# Altium integrated library Analog Devices Switches and Multiplexers Analog Switches.IntLib: 575 symbols (part 14 of 23)
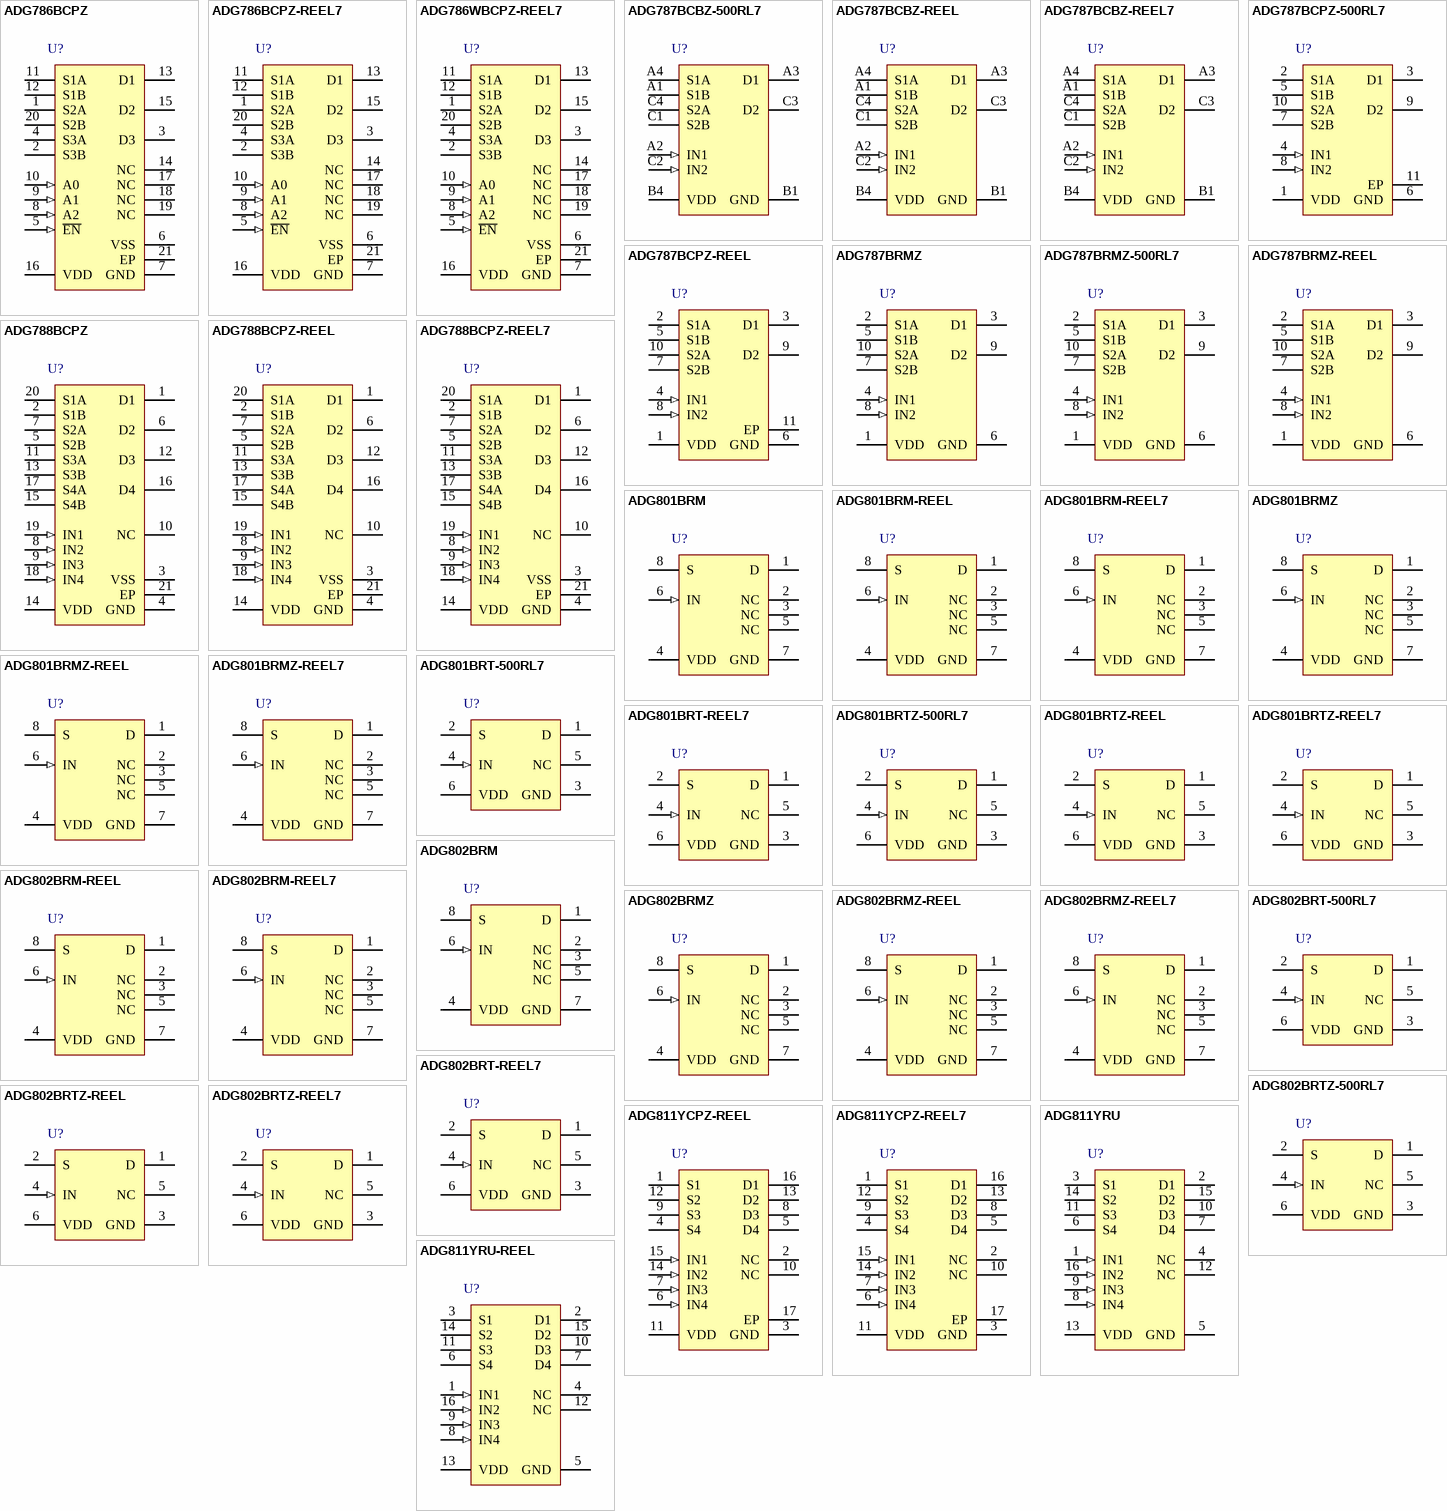
[diagram p28: symbols ADG786BCPZ to ADG811YRU-REEL]

## ADG787BCBZ-REEL
designator U?
2.5 Ohm CMOS Low Power Dual 2:1 Mux / Demux USB 1.1 Switch, -25 to 85 degC, 10-pin BGA (CB-10), Reel; Manufacturer: Analog Devices; PartNumber: ADG787BCBZ-REEL; Configuration: SPDT; Id, Is (ON): 50pA, 10pA; Max Pos Supply: 5.5V; Min Pos Supply: 1.8V; Power Dissipation: 5.5uW; Ron (ohms): 2.5; DatasheetVersion: 111105-0; PackageVersion: 111105-0, 11/2005; PackageReference: CB-10-ADG787; PackageDescription: 10-Ball Wafer Level Chip Scale Package, Body 2 x 1.5 mm, Pitch 0.5 mm; Supplier 1: Digi-Key; Supplier Part Number 1: ADG787BCBZ-REEL-ND; Supplier 2: Mouser; Supplier Part Number 2: 584-ADG787BCBZ-R; Is OFF: 50pA, 10pA; Packing: Reel; Mounting Technology: Surface Mount; ComponentLink1Description: Manufacturer URL; ComponentLink1URL: http://www.analog.com/en/index.html; ComponentLink2Description: Datasheet; ComponentLink2URL: http://www.analog.com/static/imported-files/data_sheets/ADG787.pdf; ComponentLink3Description: Package Specification; ComponentLink3URL: http://www.analog.com/static/imported-files/data_sheets/ADG787.pdf
footprint ADI-CB-10-ADG787 (BGA, 10-Balls, Body 2x1.5mm, Pitch 0.5mm)
pins: A1 S1B "Source Terminal. May be an input or output.", A2 IN1 (in) "Logic Control Input.", A3 D1 "Drain Terminal. May be an input or output.", A4 S1A "Source Terminal. May be an input or output.", B1 GND (power) "Ground (0 V) Reference.", B4 VDD (power) "Most Positive Power Supply Potential.", C1 S2B "Source Terminal. May be an input or output.", C2 IN2 (in) "Logic Control Input.", C3 D2 "Drain Terminal. May be an input or output.", C4 S2A "Source Terminal. May be an input or output."

## ADG787BCBZ-REEL7
designator U?
2.5 Ohm CMOS Low Power Dual 2:1 Mux / Demux USB 1.1 Switch, -25 to 85 degC, 10-pin BGA (CB-10), Reel; Manufacturer: Analog Devices; PartNumber: ADG787BCBZ-REEL7; Configuration: SPDT; Id, Is (ON): 50pA, 10pA; Max Pos Supply: 5.5V; Min Pos Supply: 1.8V; Power Dissipation: 5.5uW; Ron (ohms): 2.5; DatasheetVersion: 111105-0; PackageVersion: 111105-0, 11/2005; PackageReference: CB-10-ADG787; PackageDescription: 10-Ball Wafer Level Chip Scale Package, Body 2 x 1.5 mm, Pitch 0.5 mm; Supplier 1: Digi-Key; Supplier Part Number 1: ADG787BCBZ-REEL7CT-ND; Supplier 2: Digi-Key; Supplier Part Number 2: ADG787BCBZ-REEL7DKR-ND; Supplier 3: Mouser; Supplier Part Number 3: 584-ADG787BCBZ-R7; Is OFF: 50pA, 10pA; Packing: Reel; Mounting Technology: Surface Mount; ComponentLink1Description: Manufacturer URL; ComponentLink1URL: http://www.analog.com/en/index.html; ComponentLink2Description: Datasheet; ComponentLink2URL: http://www.analog.com/static/imported-files/data_sheets/ADG787.pdf; ComponentLink3Description: Package Specification; ComponentLink3URL: http://www.analog.com/static/imported-files/data_sheets/ADG787.pdf
footprint ADI-CB-10-ADG787 (BGA, 10-Balls, Body 2x1.5mm, Pitch 0.5mm)
pins: A1 S1B "Source Terminal. May be an input or output.", A2 IN1 (in) "Logic Control Input.", A3 D1 "Drain Terminal. May be an input or output.", A4 S1A "Source Terminal. May be an input or output.", B1 GND (power) "Ground (0 V) Reference.", B4 VDD (power) "Most Positive Power Supply Potential.", C1 S2B "Source Terminal. May be an input or output.", C2 IN2 (in) "Logic Control Input.", C3 D2 "Drain Terminal. May be an input or output.", C4 S2A "Source Terminal. May be an input or output."

## ADG787BCPZ-500RL7
designator U?
2.5 Ohm CMOS Low Power Dual 2:1 Mux / Demux USB 1.1 Switch, -40 to 85 degC, 10-pin SON (CP-10-9), Reel; Manufacturer: Analog Devices; PartNumber: ADG787BCPZ-500RL7; Configuration: SPDT; Id, Is (ON): 50pA, 10pA; Max Pos Supply: 5.5V; Min Pos Supply: 1.8V; Power Dissipation: 5.5uW; Ron (ohms): 2.5; DatasheetVersion: 111105-0; PackageVersion: 02-27-2012-B; PackageReference: CP-10-9; PackageDescription: 10-Pin Lead Frame Chip Scale Package, Body 3 X 3 mm, Pitch 0.5 mm; Supplier 1: Digi-Key; Supplier Part Number 1: ADG787BCPZ-500RL7TR-ND; Supplier 2: Digi-Key; Supplier Part Number 2: ADG787BCPZ-500RL7CT-ND; Supplier 3: Digi-Key; Supplier Part Number 3: ADG787BCPZ-500RL7DKR-ND; Supplier 4: Newark; Supplier Part Number 4: 34M4792; Supplier 5: Mouser; Supplier Part Number 5: 584-ADG787BCPZ-500R7; Is OFF: 50pA, 10pA; Packing: Reel; Mounting Technology: Surface Mount; ComponentLink1Description: Manufacturer URL; ComponentLink1URL: http://www.analog.com/en/index.html; ComponentLink2Description: Datasheet; ComponentLink2URL: http://www.analog.com/static/imported-files/data_sheets/ADG787.pdf; ComponentLink3Description: Package Specification; ComponentLink3URL: http://www.analog.com/static/imported-files/packages/CP_10_9.pdf
footprint ADI-CP-10-9_V (SON, 10-Leads, Body 3x3mm, Pitch 0.5mm, Thermal Pad 2.48x1.74mm)
pins: 1 VDD (power) "Most Positive Power Supply Potential.", 2 S1A "Source Terminal. May be an input or output.", 3 D1 "Drain Terminal. May be an input or output.", 4 IN1 (in) "Logic Control Input.", 5 S1B "Source Terminal. May be an input or output.", 6 GND (power) "Ground (0 V) Reference.", 7 S2B "Source Terminal. May be an input or output.", 8 IN2 (in) "Logic Control Input.", 9 D2 "Drain Terminal. May be an input or output.", 10 S2A "Source Terminal. May be an input or output.", 11 EP "Exposed thermal pad"

## ADG787BCPZ-REEL
designator U?
2.5 Ohm CMOS Low Power Dual 2:1 Mux / Demux USB 1.1 Switch, -40 to 85 degC, 10-pin SON (CP-10-9), Reel; Manufacturer: Analog Devices; PartNumber: ADG787BCPZ-REEL; Configuration: SPDT; Id, Is (ON): 50pA, 10pA; Max Pos Supply: 5.5V; Min Pos Supply: 1.8V; Power Dissipation: 5.5uW; Ron (ohms): 2.5; DatasheetVersion: 111105-0; PackageVersion: 02-27-2012-B; PackageReference: CP-10-9; PackageDescription: 10-Pin Lead Frame Chip Scale Package, Body 3 X 3 mm, Pitch 0.5 mm; Supplier 1: Digi-Key; Supplier Part Number 1: ADG787BCPZ-REEL-ND; Supplier 2: Mouser; Supplier Part Number 2: 584-ADG787BCPZ-R; Is OFF: 50pA, 10pA; Packing: Reel; Mounting Technology: Surface Mount; ComponentLink1Description: Manufacturer URL; ComponentLink1URL: http://www.analog.com/en/index.html; ComponentLink2Description: Datasheet; ComponentLink2URL: http://www.analog.com/static/imported-files/data_sheets/ADG787.pdf; ComponentLink3Description: Package Specification; ComponentLink3URL: http://www.analog.com/static/imported-files/packages/CP_10_9.pdf
footprint ADI-CP-10-9_V (SON, 10-Leads, Body 3x3mm, Pitch 0.5mm, Thermal Pad 2.48x1.74mm)
pins: 1 VDD (power) "Most Positive Power Supply Potential.", 2 S1A "Source Terminal. May be an input or output.", 3 D1 "Drain Terminal. May be an input or output.", 4 IN1 (in) "Logic Control Input.", 5 S1B "Source Terminal. May be an input or output.", 6 GND (power) "Ground (0 V) Reference.", 7 S2B "Source Terminal. May be an input or output.", 8 IN2 (in) "Logic Control Input.", 9 D2 "Drain Terminal. May be an input or output.", 10 S2A "Source Terminal. May be an input or output.", 11 EP "Exposed thermal pad"

## ADG787BRMZ
designator U?
2.5 Ohm CMOS Low Power Dual 2:1 Mux / Demux USB 1.1 Switch, -40 to 85 degC, 10-pin SOP (RM-10), Tube; Manufacturer: Analog Devices; PartNumber: ADG787BRMZ; Configuration: SPDT; Id, Is (ON): 50pA, 10pA; Max Pos Supply: 5.5V; Min Pos Supply: 1.8V; Power Dissipation: 5.5uW; Ron (ohms): 2.5; DatasheetVersion: 111105-0; PackageVersion: Aug-05; PackageReference: RM-10; PackageDescription: 10-Pin Mini Small Outline Package, Body 3 x 3 mm, Pitch 0.5 mm; Supplier 1: Digi-Key; Supplier Part Number 1: ADG787BRMZ-ND; Supplier 2: Farnell; Supplier Part Number 2: 1117867; Supplier 3: Newark; Supplier Part Number 3: 19M0695; Supplier 4: Mouser; Supplier Part Number 4: 584-ADG787BRMZ; Is OFF: 50pA, 10pA; Packing: Tube; Mounting Technology: Surface Mount; Code_JEDEC: MO-187-BA; ComponentLink1Description: Manufacturer URL; ComponentLink1URL: http://www.analog.com/en/index.html; ComponentLink2Description: Datasheet; ComponentLink2URL: http://www.analog.com/static/imported-files/data_sheets/ADG787.pdf; ComponentLink3Description: Package Specification; ComponentLink3URL: http://www.analog.com/static/imported-files/packages/PKG_PDF/MSOP%28RM%29/RM_10.pdf
footprint ADI-RM-10_N (SOP, 10-Leads, Body 3x3mm, Pitch 0.5mm, IPC Medium Density)
footprint ADI-RM-10_L (SOP, 10-Leads, Body 3x3mm, Pitch 0.5mm, IPC High Density)
footprint ADI-RM-10_M (SOP, 10-Leads, Body 3x3mm, Pitch 0.5mm, IPC Low Density)
pins: 1 VDD (power) "Most Positive Power Supply Potential.", 2 S1A "Source Terminal. Can be an input or output.", 3 D1 "Drain Terminal. Can be an input or output.", 4 IN1 (in) "Logic Control Input.", 5 S1B "Source Terminal. Can be an input or output.", 6 GND (power) "Ground (0 V) Reference.", 7 S2B "Source Terminal. Can be an input or output.", 8 IN2 (in) "Login Control Input.", 9 D2 "Drain Terminal. Can be an input or output.", 10 S2A "Source Terminal. Can be an input or output."

## ADG787BRMZ-500RL7
designator U?
2.5 Ohm CMOS Low Power Dual 2:1 Mux / Demux USB 1.1 Switch, -40 to 85 degC, 10-pin SOP (RM-10), Reel; Manufacturer: Analog Devices; PartNumber: ADG787BRMZ-500RL7; Configuration: SPDT; Id, Is (ON): 50pA, 10pA; Max Pos Supply: 5.5V; Min Pos Supply: 1.8V; Power Dissipation: 5.5uW; Ron (ohms): 2.5; DatasheetVersion: 111105-0; PackageVersion: Aug-05; PackageReference: RM-10; PackageDescription: 10-Pin Mini Small Outline Package, Body 3 x 3 mm, Pitch 0.5 mm; Supplier 1: Digi-Key; Supplier Part Number 1: ADG787BRMZ-500RL7TR-ND; Supplier 2: Digi-Key; Supplier Part Number 2: ADG787BRMZ-500RL7CT-ND; Supplier 3: Digi-Key; Supplier Part Number 3: ADG787BRMZ-500RL7DKR-ND; Supplier 4: Newark; Supplier Part Number 4: 34M4794; Supplier 5: Mouser; Supplier Part Number 5: 584-ADG787BRMZ-500R7; Is OFF: 50pA, 10pA; Packing: Reel; Mounting Technology: Surface Mount; Code_JEDEC: MO-187-BA; ComponentLink1Description: Manufacturer URL; ComponentLink1URL: http://www.analog.com/en/index.html; ComponentLink2Description: Datasheet; ComponentLink2URL: http://www.analog.com/static/imported-files/data_sheets/ADG787.pdf; ComponentLink3Description: Package Specification; ComponentLink3URL: http://www.analog.com/static/imported-files/packages/PKG_PDF/MSOP%28RM%29/RM_10.pdf
footprint ADI-RM-10_N (SOP, 10-Leads, Body 3x3mm, Pitch 0.5mm, IPC Medium Density)
footprint ADI-RM-10_L (SOP, 10-Leads, Body 3x3mm, Pitch 0.5mm, IPC High Density)
footprint ADI-RM-10_M (SOP, 10-Leads, Body 3x3mm, Pitch 0.5mm, IPC Low Density)
pins: 1 VDD (power) "Most Positive Power Supply Potential.", 2 S1A "Source Terminal. Can be an input or output.", 3 D1 "Drain Terminal. Can be an input or output.", 4 IN1 (in) "Logic Control Input.", 5 S1B "Source Terminal. Can be an input or output.", 6 GND (power) "Ground (0 V) Reference.", 7 S2B "Source Terminal. Can be an input or output.", 8 IN2 (in) "Login Control Input.", 9 D2 "Drain Terminal. Can be an input or output.", 10 S2A "Source Terminal. Can be an input or output."

## ADG787BRMZ-REEL
designator U?
2.5 Ohm CMOS Low Power Dual 2:1 Mux / Demux USB 1.1 Switch, -40 to 85 degC, 10-pin SOP (RM-10), Reel; Manufacturer: Analog Devices; PartNumber: ADG787BRMZ-REEL; Configuration: SPDT; Id, Is (ON): 50pA, 10pA; Max Pos Supply: 5.5V; Min Pos Supply: 1.8V; Power Dissipation: 5.5uW; Ron (ohms): 2.5; DatasheetVersion: 111105-0; PackageVersion: Aug-05; PackageReference: RM-10; PackageDescription: 10-Pin Mini Small Outline Package, Body 3 x 3 mm, Pitch 0.5 mm; Supplier 1: Digi-Key; Supplier Part Number 1: ADG787BRMZ-REEL-ND; Supplier 2: Newark; Supplier Part Number 2: 34M4793; Supplier 3: Mouser; Supplier Part Number 3: 584-ADG787BRMZ-R; Is OFF: 50pA, 10pA; Packing: Reel; Mounting Technology: Surface Mount; Code_JEDEC: MO-187-BA; ComponentLink1Description: Manufacturer URL; ComponentLink1URL: http://www.analog.com/en/index.html; ComponentLink2Description: Datasheet; ComponentLink2URL: http://www.analog.com/static/imported-files/data_sheets/ADG787.pdf; ComponentLink3Description: Package Specification; ComponentLink3URL: http://www.analog.com/static/imported-files/packages/PKG_PDF/MSOP%28RM%29/RM_10.pdf
footprint ADI-RM-10_N (SOP, 10-Leads, Body 3x3mm, Pitch 0.5mm, IPC Medium Density)
footprint ADI-RM-10_L (SOP, 10-Leads, Body 3x3mm, Pitch 0.5mm, IPC High Density)
footprint ADI-RM-10_M (SOP, 10-Leads, Body 3x3mm, Pitch 0.5mm, IPC Low Density)
pins: 1 VDD (power) "Most Positive Power Supply Potential.", 2 S1A "Source Terminal. Can be an input or output.", 3 D1 "Drain Terminal. Can be an input or output.", 4 IN1 (in) "Logic Control Input.", 5 S1B "Source Terminal. Can be an input or output.", 6 GND (power) "Ground (0 V) Reference.", 7 S2B "Source Terminal. Can be an input or output.", 8 IN2 (in) "Login Control Input.", 9 D2 "Drain Terminal. Can be an input or output.", 10 S2A "Source Terminal. Can be an input or output."

## ADG788BCPZ
designator U?
2.5 Ohm, 1.8 to 5.5 V, +/-2.5 V Quad SPDT Switch, -40 to 85 degC, 20-pin QFN (CP-20-1), Tray; Manufacturer: Analog Devices; PartNumber: ADG788BCPZ; Id, Is (ON): 10pA, 10pA; Max Pos Supply: 5.5V; Min Pos Supply: 1.8V; Ron (ohms): 2.5; DatasheetVersion: Rev. A; PackageVersion: 012508-B, 01/2008; PackageReference: CP-20-1; PackageDescription: 20-Pin Lead Frame Chip Scale Package, Body 4 x 4 mm, Pitch 0.5 mm; Supplier 1: Digi-Key; Supplier Part Number 1: ADG788BCPZ-ND; Supplier 2: Farnell; Supplier Part Number 2: 2376789; Supplier 3: Farnell; Supplier Part Number 3: 1702949; Supplier 4: Newark; Supplier Part Number 4: 96K2068; Supplier 5: Mouser; Supplier Part Number 5: 584-ADG788BCPZ; Configuration: SPDT; Is OFF: 10pA, 10pA; Packing: Tray; Mounting Technology: Surface Mount; Code_JEDEC: MO-220-VGGD-1; ComponentLink1Description: Manufacturer URL; ComponentLink1URL: http://www.analog.com/en/index.html; ComponentLink2Description: Datasheet; ComponentLink2URL: http://www.analog.com/static/imported-files/data_sheets/ADG786_788.pdf; ComponentLink3Description: Package Specification; ComponentLink3URL: http://www.analog.com/static/imported-files/packages/PKG_PDF/LFCSP(CP)/CP_20_1.pdf
footprint ADI-CP-20-1_N (QFN, 20-Leads, Body 4x4mm, Pitch 0.5mm, Thermal Pad 2.1x2.1mm, IPC Medium Density)
footprint ADI-CP-20-1_L (QFN, 20-Leads, Body 4x4mm, Pitch 0.5mm, Thermal Pad 2.1x2.1mm, IPC High Density)
footprint ADI-CP-20-1_M (QFN, 20-Leads, Body 4x4mm, Pitch 0.5mm, Thermal Pad 2.1x2.1mm, IPC Low Density)
pins: 1 D1 "Drain Terminal. May be an input or output", 2 S1B "Source Terminal. May be an input or output", 3 VSS (power) "Most Negative Power Supply in a Dual Supply Application. In single supply applications, this should be tied to ground close to the device.", 4 GND (power) "Ground (0 V) Reference", 5 S2B "Source Terminal. May be an input or output", 6 D2 "Drain Terminal. May be an input or output", 7 S2A "Source Terminal. May be an input or output", 8 IN2 (in) "Logic Control Input", 9 IN3 (in) "Logic Control Input", 10 NC "No Connect", 11 S3A "Source Terminal. May be an input or output", 12 D3 "Drain Terminal. May be an input or output", 13 S3B "Source Terminal. May be an input or output", 14 VDD (power) "Most Positive Power Supply Potential", 15 S4B "Source Terminal. May be an input or output", 16 D4 "Drain Terminal. May be an input or output", 17 S4A "Source Terminal. May be an input or output", 18 IN4 (in) "Logic Control Input", 19 IN1 (in) "Logic Control Input", 20 S1A "Source Terminal. May be an input or output", 21 EP (power) "Exposed Pad tied to substrate,vss"

## ADG788BCPZ-REEL
designator U?
2.5 Ohm, 1.8 to 5.5 V, +/-2.5 V Quad SPDT Switch, -40 to 85 degC, 20-pin QFN (CP-20-1), Reel; Manufacturer: Analog Devices; PartNumber: ADG788BCPZ-REEL; Id, Is (ON): 10pA, 10pA; Max Pos Supply: 5.5V; Min Pos Supply: 1.8V; Ron (ohms): 2.5; DatasheetVersion: Rev. A; PackageVersion: 012508-B, 01/2008; PackageReference: CP-20-1; PackageDescription: 20-Pin Lead Frame Chip Scale Package, Body 4 x 4 mm, Pitch 0.5 mm; Supplier 1: Digi-Key; Supplier Part Number 1: ADG788BCPZ-REEL-ND; Supplier 2: Mouser; Supplier Part Number 2: 584-ADG788BCPZ-R; Configuration: SPDT; Is OFF: 10pA, 10pA; Packing: Reel; Mounting Technology: Surface Mount; Code_JEDEC: MO-220-VGGD-1; ComponentLink1Description: Manufacturer URL; ComponentLink1URL: http://www.analog.com/en/index.html; ComponentLink2Description: Datasheet; ComponentLink2URL: http://www.analog.com/static/imported-files/data_sheets/ADG786_788.pdf; ComponentLink3Description: Package Specification; ComponentLink3URL: http://www.analog.com/static/imported-files/packages/PKG_PDF/LFCSP(CP)/CP_20_1.pdf
footprint ADI-CP-20-1_N (QFN, 20-Leads, Body 4x4mm, Pitch 0.5mm, Thermal Pad 2.1x2.1mm, IPC Medium Density)
footprint ADI-CP-20-1_L (QFN, 20-Leads, Body 4x4mm, Pitch 0.5mm, Thermal Pad 2.1x2.1mm, IPC High Density)
footprint ADI-CP-20-1_M (QFN, 20-Leads, Body 4x4mm, Pitch 0.5mm, Thermal Pad 2.1x2.1mm, IPC Low Density)
pins: 1 D1 "Drain Terminal. May be an input or output", 2 S1B "Source Terminal. May be an input or output", 3 VSS (power) "Most Negative Power Supply in a Dual Supply Application. In single supply applications, this should be tied to ground close to the device.", 4 GND (power) "Ground (0 V) Reference", 5 S2B "Source Terminal. May be an input or output", 6 D2 "Drain Terminal. May be an input or output", 7 S2A "Source Terminal. May be an input or output", 8 IN2 (in) "Logic Control Input", 9 IN3 (in) "Logic Control Input", 10 NC "No Connect", 11 S3A "Source Terminal. May be an input or output", 12 D3 "Drain Terminal. May be an input or output", 13 S3B "Source Terminal. May be an input or output", 14 VDD (power) "Most Positive Power Supply Potential", 15 S4B "Source Terminal. May be an input or output", 16 D4 "Drain Terminal. May be an input or output", 17 S4A "Source Terminal. May be an input or output", 18 IN4 (in) "Logic Control Input", 19 IN1 (in) "Logic Control Input", 20 S1A "Source Terminal. May be an input or output", 21 EP (power) "Exposed Pad tied to substrate,vss"

## ADG788BCPZ-REEL7
designator U?
2.5 Ohm, 1.8 to 5.5 V, +/-2.5 V Quad SPDT Switch, -40 to 85 degC, 20-pin QFN (CP-20-1), Reel; Manufacturer: Analog Devices; PartNumber: ADG788BCPZ-REEL7; Id, Is (ON): 10pA, 10pA; Max Pos Supply: 5.5V; Min Pos Supply: 1.8V; Ron (ohms): 2.5; DatasheetVersion: Rev. A; PackageVersion: 012508-B, 01/2008; PackageReference: CP-20-1; PackageDescription: 20-Pin Lead Frame Chip Scale Package, Body 4 x 4 mm, Pitch 0.5 mm; Supplier 1: Digi-Key; Supplier Part Number 1: ADG788BCPZ-REEL7TR-ND; Supplier 2: Digi-Key; Supplier Part Number 2: ADG788BCPZ-REEL7CT-ND; Supplier 3: Digi-Key; Supplier Part Number 3: ADG788BCPZ-REEL7DKR-ND; Supplier 4: Newark; Supplier Part Number 4: 61M3942; Supplier 5: Mouser; Supplier Part Number 5: 584-ADG788BCPZ-R7; Configuration: SPDT; Is OFF: 10pA, 10pA; Packing: Reel; Mounting Technology: Surface Mount; Code_JEDEC: MO-220-VGGD-1; ComponentLink1Description: Manufacturer URL; ComponentLink1URL: http://www.analog.com/en/index.html; ComponentLink2Description: Datasheet; ComponentLink2URL: http://www.analog.com/static/imported-files/data_sheets/ADG786_788.pdf; ComponentLink3Description: Package Specification; ComponentLink3URL: http://www.analog.com/static/imported-files/packages/PKG_PDF/LFCSP(CP)/CP_20_1.pdf
footprint ADI-CP-20-1_N (QFN, 20-Leads, Body 4x4mm, Pitch 0.5mm, Thermal Pad 2.1x2.1mm, IPC Medium Density)
footprint ADI-CP-20-1_L (QFN, 20-Leads, Body 4x4mm, Pitch 0.5mm, Thermal Pad 2.1x2.1mm, IPC High Density)
footprint ADI-CP-20-1_M (QFN, 20-Leads, Body 4x4mm, Pitch 0.5mm, Thermal Pad 2.1x2.1mm, IPC Low Density)
pins: 1 D1 "Drain Terminal. May be an input or output", 2 S1B "Source Terminal. May be an input or output", 3 VSS (power) "Most Negative Power Supply in a Dual Supply Application. In single supply applications, this should be tied to ground close to the device.", 4 GND (power) "Ground (0 V) Reference", 5 S2B "Source Terminal. May be an input or output", 6 D2 "Drain Terminal. May be an input or output", 7 S2A "Source Terminal. May be an input or output", 8 IN2 (in) "Logic Control Input", 9 IN3 (in) "Logic Control Input", 10 NC "No Connect", 11 S3A "Source Terminal. May be an input or output", 12 D3 "Drain Terminal. May be an input or output", 13 S3B "Source Terminal. May be an input or output", 14 VDD (power) "Most Positive Power Supply Potential", 15 S4B "Source Terminal. May be an input or output", 16 D4 "Drain Terminal. May be an input or output", 17 S4A "Source Terminal. May be an input or output", 18 IN4 (in) "Logic Control Input", 19 IN1 (in) "Logic Control Input", 20 S1A "Source Terminal. May be an input or output", 21 EP (power) "Exposed Pad tied to substrate,vss"

## ADG801BRM
designator U?
<0.4 Ohm CMOS 1.8 to 5.5 V SPST Switch, -40 to 125 degC, 8-pin SOP (RM-8), Tube; Manufacturer: Analog Devices; PartNumber: ADG801BRM; # Sw Functions: 1; Id, Is (ON): 10pA, 10pA; Max Pos Supply: 5.5V; Min Pos Supply: 1.8V; Power Dissipation: 5uW; DatasheetVersion: Rev. B; PackageVersion: Aug-05; PackageReference: RM-8; PackageDescription: 8-Pin Mini Small Outline Package, Body 3 x 3 mm, Pitch 0.65 mm; Supplier 1: Digi-Key; Supplier Part Number 1: ADG801BRM-ND; Supplier 2: Newark; Supplier Part Number 2: 86C8285; Supplier 3: Mouser; Supplier Part Number 3: 584-ADG801BRM; Configuration: SPST; Is OFF: 10pA, 10pA; Packing: Tube; Mounting Technology: Surface Mount; Code_JEDEC: MO-187-AA; ComponentLink1Description: Manufacturer URL; ComponentLink1URL: http://www.analog.com/en/index.html; ComponentLink2Description: Datasheet; ComponentLink2URL: http://www.analog.com/static/imported-files/data_sheets/ADG801_802.pdf; ComponentLink3Description: Package Specification; ComponentLink3URL: http://www.analog.com/static/imported-files/packages/PKG_PDF/MSOP%28RM%29/RM_8.pdf
footprint ADI-RM-8_N (SOP, 8-Leads, Body 3x3mm, Pitch 0.65mm, IPC Medium Density)
footprint ADI-RM-8_L (SOP, 8-Leads, Body 3x3mm, Pitch 0.65mm, IPC High Density)
footprint ADI-RM-8_M (SOP, 8-Leads, Body 3x3mm, Pitch 0.65mm, IPC Low Density)
pins: 1 D "Drain Terminal. This pin can be an input or output.", 2 NC "No Connect.", 3 NC "No Connect.", 4 VDD (power) "Most Positive Power Supply Potential.", 5 NC "No Connect.", 6 IN (in) "Logic Control Input.", 7 GND (power) "Ground (0 V) Reference.", 8 S "Source Terminal. This pin can be an input or output."

## ADG801BRM-REEL
designator U?
<0.4 Ohm CMOS 1.8 to 5.5 V SPST Switch, -40 to 125 degC, 8-pin SOP (RM-8), Reel; Manufacturer: Analog Devices; PartNumber: ADG801BRM-REEL; # Sw Functions: 1; Id, Is (ON): 10pA, 10pA; Max Pos Supply: 5.5V; Min Pos Supply: 1.8V; Power Dissipation: 5uW; DatasheetVersion: Rev. B; PackageVersion: Aug-05; PackageReference: RM-8; PackageDescription: 8-Pin Mini Small Outline Package, Body 3 x 3 mm, Pitch 0.65 mm; Supplier 1: Digi-Key; Supplier Part Number 1: ADG801BRM-REEL-ND; Supplier 2: Mouser; Supplier Part Number 2: 584-ADG801BRM-R; Configuration: SPST; Is OFF: 10pA, 10pA; Packing: Reel; Mounting Technology: Surface Mount; Code_JEDEC: MO-187-AA; ComponentLink1Description: Manufacturer URL; ComponentLink1URL: http://www.analog.com/en/index.html; ComponentLink2Description: Datasheet; ComponentLink2URL: http://www.analog.com/static/imported-files/data_sheets/ADG801_802.pdf; ComponentLink3Description: Package Specification; ComponentLink3URL: http://www.analog.com/static/imported-files/packages/PKG_PDF/MSOP%28RM%29/RM_8.pdf
footprint ADI-RM-8_N (SOP, 8-Leads, Body 3x3mm, Pitch 0.65mm, IPC Medium Density)
footprint ADI-RM-8_L (SOP, 8-Leads, Body 3x3mm, Pitch 0.65mm, IPC High Density)
footprint ADI-RM-8_M (SOP, 8-Leads, Body 3x3mm, Pitch 0.65mm, IPC Low Density)
pins: 1 D "Drain Terminal. This pin can be an input or output.", 2 NC "No Connect.", 3 NC "No Connect.", 4 VDD (power) "Most Positive Power Supply Potential.", 5 NC "No Connect.", 6 IN (in) "Logic Control Input.", 7 GND (power) "Ground (0 V) Reference.", 8 S "Source Terminal. This pin can be an input or output."

## ADG801BRM-REEL7
designator U?
<0.4 Ohm CMOS 1.8 to 5.5 V SPST Switch, -40 to 125 degC, 8-pin SOP (RM-8), Reel; Manufacturer: Analog Devices; PartNumber: ADG801BRM-REEL7; # Sw Functions: 1; Id, Is (ON): 10pA, 10pA; Max Pos Supply: 5.5V; Min Pos Supply: 1.8V; Power Dissipation: 5uW; DatasheetVersion: Rev. B; PackageVersion: Aug-05; PackageReference: RM-8; PackageDescription: 8-Pin Mini Small Outline Package, Body 3 x 3 mm, Pitch 0.65 mm; Supplier 1: Digi-Key; Supplier Part Number 1: ADG801BRM-REEL7-ND; Supplier 2: Mouser; Supplier Part Number 2: 584-ADG801BRM-R7; Configuration: SPST; Is OFF: 10pA, 10pA; Packing: Reel; Mounting Technology: Surface Mount; Code_JEDEC: MO-187-AA; ComponentLink1Description: Manufacturer URL; ComponentLink1URL: http://www.analog.com/en/index.html; ComponentLink2Description: Datasheet; ComponentLink2URL: http://www.analog.com/static/imported-files/data_sheets/ADG801_802.pdf; ComponentLink3Description: Package Specification; ComponentLink3URL: http://www.analog.com/static/imported-files/packages/PKG_PDF/MSOP%28RM%29/RM_8.pdf
footprint ADI-RM-8_N (SOP, 8-Leads, Body 3x3mm, Pitch 0.65mm, IPC Medium Density)
footprint ADI-RM-8_L (SOP, 8-Leads, Body 3x3mm, Pitch 0.65mm, IPC High Density)
footprint ADI-RM-8_M (SOP, 8-Leads, Body 3x3mm, Pitch 0.65mm, IPC Low Density)
pins: 1 D "Drain Terminal. This pin can be an input or output.", 2 NC "No Connect.", 3 NC "No Connect.", 4 VDD (power) "Most Positive Power Supply Potential.", 5 NC "No Connect.", 6 IN (in) "Logic Control Input.", 7 GND (power) "Ground (0 V) Reference.", 8 S "Source Terminal. This pin can be an input or output."

## ADG801BRMZ
designator U?
<0.4 Ohm CMOS 1.8 to 5.5 V SPST Switch, -40 to 125 degC, 8-pin SOP (RM-8), Tube; Manufacturer: Analog Devices; PartNumber: ADG801BRMZ; # Sw Functions: 1; Id, Is (ON): 10pA, 10pA; Max Pos Supply: 5.5V; Min Pos Supply: 1.8V; Power Dissipation: 5uW; DatasheetVersion: Rev. B; PackageVersion: Aug-05; PackageReference: RM-8; PackageDescription: 8-Pin Mini Small Outline Package, Body 3 x 3 mm, Pitch 0.65 mm; Supplier 1: Digi-Key; Supplier Part Number 1: ADG801BRMZ-ND; Supplier 2: Farnell; Supplier Part Number 2: 2376779; Supplier 3: Newark; Supplier Part Number 3: 12M7846; Supplier 4: Mouser; Supplier Part Number 4: 584-ADG801BRMZ; Configuration: SPST; Is OFF: 10pA, 10pA; Packing: Tube; Mounting Technology: Surface Mount; Code_JEDEC: MO-187-AA; ComponentLink1Description: Manufacturer URL; ComponentLink1URL: http://www.analog.com/en/index.html; ComponentLink2Description: Datasheet; ComponentLink2URL: http://www.analog.com/static/imported-files/data_sheets/ADG801_802.pdf; ComponentLink3Description: Package Specification; ComponentLink3URL: http://www.analog.com/static/imported-files/packages/PKG_PDF/MSOP%28RM%29/RM_8.pdf
footprint ADI-RM-8_N (SOP, 8-Leads, Body 3x3mm, Pitch 0.65mm, IPC Medium Density)
footprint ADI-RM-8_L (SOP, 8-Leads, Body 3x3mm, Pitch 0.65mm, IPC High Density)
footprint ADI-RM-8_M (SOP, 8-Leads, Body 3x3mm, Pitch 0.65mm, IPC Low Density)
pins: 1 D "Drain Terminal. This pin can be an input or output.", 2 NC "No Connect.", 3 NC "No Connect.", 4 VDD (power) "Most Positive Power Supply Potential.", 5 NC "No Connect.", 6 IN (in) "Logic Control Input.", 7 GND (power) "Ground (0 V) Reference.", 8 S "Source Terminal. This pin can be an input or output."

## ADG801BRMZ-REEL
designator U?
<0.4 Ohm CMOS 1.8 to 5.5 V SPST Switch, -40 to 125 degC, 8-pin SOP (RM-8), Reel; Manufacturer: Analog Devices; PartNumber: ADG801BRMZ-REEL; # Sw Functions: 1; Id, Is (ON): 10pA, 10pA; Max Pos Supply: 5.5V; Min Pos Supply: 1.8V; Power Dissipation: 5uW; DatasheetVersion: Rev. B; PackageVersion: Aug-05; PackageReference: RM-8; PackageDescription: 8-Pin Mini Small Outline Package, Body 3 x 3 mm, Pitch 0.65 mm; Supplier 1: Digi-Key; Supplier Part Number 1: ADG801BRMZ-REEL-ND; Supplier 2: Mouser; Supplier Part Number 2: 584-ADG801BRMZ-R; Configuration: SPST; Is OFF: 10pA, 10pA; Packing: Reel; Mounting Technology: Surface Mount; Code_JEDEC: MO-187-AA; ComponentLink1Description: Manufacturer URL; ComponentLink1URL: http://www.analog.com/en/index.html; ComponentLink2Description: Datasheet; ComponentLink2URL: http://www.analog.com/static/imported-files/data_sheets/ADG801_802.pdf; ComponentLink3Description: Package Specification; ComponentLink3URL: http://www.analog.com/static/imported-files/packages/PKG_PDF/MSOP%28RM%29/RM_8.pdf
footprint ADI-RM-8_N (SOP, 8-Leads, Body 3x3mm, Pitch 0.65mm, IPC Medium Density)
footprint ADI-RM-8_L (SOP, 8-Leads, Body 3x3mm, Pitch 0.65mm, IPC High Density)
footprint ADI-RM-8_M (SOP, 8-Leads, Body 3x3mm, Pitch 0.65mm, IPC Low Density)
pins: 1 D "Drain Terminal. This pin can be an input or output.", 2 NC "No Connect.", 3 NC "No Connect.", 4 VDD (power) "Most Positive Power Supply Potential.", 5 NC "No Connect.", 6 IN (in) "Logic Control Input.", 7 GND (power) "Ground (0 V) Reference.", 8 S "Source Terminal. This pin can be an input or output."

## ADG801BRMZ-REEL7
designator U?
<0.4 Ohm CMOS 1.8 to 5.5 V SPST Switch, -40 to 125 degC, 8-pin SOP (RM-8), Reel; Manufacturer: Analog Devices; PartNumber: ADG801BRMZ-REEL7; # Sw Functions: 1; Id, Is (ON): 10pA, 10pA; Max Pos Supply: 5.5V; Min Pos Supply: 1.8V; Power Dissipation: 5uW; DatasheetVersion: Rev. B; PackageVersion: Aug-05; PackageReference: RM-8; PackageDescription: 8-Pin Mini Small Outline Package, Body 3 x 3 mm, Pitch 0.65 mm; Supplier 1: Digi-Key; Supplier Part Number 1: ADG801BRMZ-REEL7-ND; Supplier 2: Newark; Supplier Part Number 2: 12M7848; Supplier 3: Mouser; Supplier Part Number 3: 584-ADG801BRMZ-R7; Configuration: SPST; Is OFF: 10pA, 10pA; Packing: Reel; Mounting Technology: Surface Mount; Code_JEDEC: MO-187-AA; ComponentLink1Description: Manufacturer URL; ComponentLink1URL: http://www.analog.com/en/index.html; ComponentLink2Description: Datasheet; ComponentLink2URL: http://www.analog.com/static/imported-files/data_sheets/ADG801_802.pdf; ComponentLink3Description: Package Specification; ComponentLink3URL: http://www.analog.com/static/imported-files/packages/PKG_PDF/MSOP%28RM%29/RM_8.pdf
footprint ADI-RM-8_N (SOP, 8-Leads, Body 3x3mm, Pitch 0.65mm, IPC Medium Density)
footprint ADI-RM-8_L (SOP, 8-Leads, Body 3x3mm, Pitch 0.65mm, IPC High Density)
footprint ADI-RM-8_M (SOP, 8-Leads, Body 3x3mm, Pitch 0.65mm, IPC Low Density)
pins: 1 D "Drain Terminal. This pin can be an input or output.", 2 NC "No Connect.", 3 NC "No Connect.", 4 VDD (power) "Most Positive Power Supply Potential.", 5 NC "No Connect.", 6 IN (in) "Logic Control Input.", 7 GND (power) "Ground (0 V) Reference.", 8 S "Source Terminal. This pin can be an input or output."

## ADG801BRT-500RL7
designator U?
<0.4 Ohm CMOS 1.8 to 5.5 V SPST Switch, -40 to 125 degC, 6-pin SOT23 (RJ-6), Reel; Manufacturer: Analog Devices; PartNumber: ADG801BRT-500RL7; # Sw Functions: 1; Id, Is (ON): 10pA, 10pA; Max Pos Supply: 5.5V; Min Pos Supply: 1.8V; Power Dissipation: 5uW; DatasheetVersion: Rev. B; PackageVersion: 121608-A, 12/2008; PackageReference: RJ-6; PackageDescription: 6-Pin Small Outline Transistor Package, Body 2.9 x 1.6 mm, Pitch 0.95 mm; Supplier 1: Digi-Key; Supplier Part Number 1: ADG801BRT-500RL7-ND; Supplier 2: Mouser; Supplier Part Number 2: 584-ADG801BRT-500R7; Configuration: SPST; Is OFF: 10pA, 10pA; Packing: Reel; Mounting Technology: Surface Mount; Code_JEDEC: MO-178-AB; ComponentLink1Description: Manufacturer URL; ComponentLink1URL: http://www.analog.com/en/index.html; ComponentLink2Description: Datasheet; ComponentLink2URL: http://www.analog.com/static/imported-files/data_sheets/ADG801_802.pdf; ComponentLink3Description: Package Specification; ComponentLink3URL: http://www.analog.com/static/imported-files/packages/PKG_PDF/SOT-23(RJ)/RJ_6.pdf
footprint ADI-RJ-6_N (SOT23, 6-Leads, Body 2.9x1.6mm, Pitch 0.95mm, IPC Medium Density)
footprint ADI-RJ-6_L (SOT23, 6-Leads, Body 2.9x1.6mm, Pitch 0.95mm, IPC High Density)
footprint ADI-RJ-6_M (SOT23, 6-Leads, Body 2.9x1.6mm, Pitch 0.95mm, IPC Low Density)
pins: 1 D "Drain Terminal. Can be an input or an output.", 2 S "Source Terminal. Can be an input or an output.", 3 GND (power) "Ground (0 V) Reference.", 4 IN (in) "Logic Control Input.", 5 NC "No Connect. Do not connect to this pin.", 6 VDD (power) "Most Positive Power Supply Potential."

## ADG801BRT-REEL7
designator U?
<0.4 Ohm CMOS 1.8 to 5.5 V SPST Switch, -40 to 125 degC, 6-pin SOT23 (RJ-6), Reel; Manufacturer: Analog Devices; PartNumber: ADG801BRT-REEL7; # Sw Functions: 1; Id, Is (ON): 10pA, 10pA; Max Pos Supply: 5.5V; Min Pos Supply: 1.8V; Power Dissipation: 5uW; DatasheetVersion: Rev. B; PackageVersion: 121608-A, 12/2008; PackageReference: RJ-6; PackageDescription: 6-Pin Small Outline Transistor Package, Body 2.9 x 1.6 mm, Pitch 0.95 mm; Supplier 1: Digi-Key; Supplier Part Number 1: ADG801BRT-REEL7TR-ND; Supplier 2: Digi-Key; Supplier Part Number 2: ADG801BRT-REEL7CT-ND; Supplier 3: Digi-Key; Supplier Part Number 3: ADG801BRT-REEL7DKR-ND; Supplier 4: Newark; Supplier Part Number 4: 02H0929; Supplier 5: Mouser; Supplier Part Number 5: 584-ADG801BRT-R7; Configuration: SPST; Is OFF: 10pA, 10pA; Packing: Reel; Mounting Technology: Surface Mount; Code_JEDEC: MO-178-AB; ComponentLink1Description: Manufacturer URL; ComponentLink1URL: http://www.analog.com/en/index.html; ComponentLink2Description: Datasheet; ComponentLink2URL: http://www.analog.com/static/imported-files/data_sheets/ADG801_802.pdf; ComponentLink3Description: Package Specification; ComponentLink3URL: http://www.analog.com/static/imported-files/packages/PKG_PDF/SOT-23(RJ)/RJ_6.pdf
footprint ADI-RJ-6_N (SOT23, 6-Leads, Body 2.9x1.6mm, Pitch 0.95mm, IPC Medium Density)
footprint ADI-RJ-6_L (SOT23, 6-Leads, Body 2.9x1.6mm, Pitch 0.95mm, IPC High Density)
footprint ADI-RJ-6_M (SOT23, 6-Leads, Body 2.9x1.6mm, Pitch 0.95mm, IPC Low Density)
pins: 1 D "Drain Terminal. Can be an input or an output.", 2 S "Source Terminal. Can be an input or an output.", 3 GND (power) "Ground (0 V) Reference.", 4 IN (in) "Logic Control Input.", 5 NC "No Connect. Do not connect to this pin.", 6 VDD (power) "Most Positive Power Supply Potential."

## ADG801BRTZ-500RL7
designator U?
<0.4 Ohm CMOS 1.8 to 5.5 V SPST Switch, -40 to 125 degC, 6-pin SOT23 (RJ-6), Reel; Manufacturer: Analog Devices; PartNumber: ADG801BRTZ-500RL7; # Sw Functions: 1; Id, Is (ON): 10pA, 10pA; Max Pos Supply: 5.5V; Min Pos Supply: 1.8V; Power Dissipation: 5uW; DatasheetVersion: Rev. B; PackageVersion: 121608-A, 12/2008; PackageReference: RJ-6; PackageDescription: 6-Pin Small Outline Transistor Package, Body 2.9 x 1.6 mm, Pitch 0.95 mm; Supplier 1: Digi-Key; Supplier Part Number 1: ADG801BRTZ-500RL7TR-ND; Supplier 2: Digi-Key; Supplier Part Number 2: ADG801BRTZ-500RL7CT-ND; Supplier 3: Digi-Key; Supplier Part Number 3: ADG801BRTZ-500RL7DKR-ND; Supplier 4: Farnell; Supplier Part Number 4: 2376778; Supplier 5: Newark; Supplier Part Number 5: 23X5967; Supplier 6: Newark; Supplier Part Number 6: 59K1627; Supplier 7: Mouser; Supplier Part Number 7: 584-ADG801BRTZ-500R7; Configuration: SPST; Is OFF: 10pA, 10pA; Packing: Reel; Mounting Technology: Surface Mount; Code_JEDEC: MO-178-AB; ComponentLink1Description: Manufacturer URL; ComponentLink1URL: http://www.analog.com/en/index.html; ComponentLink2Description: Datasheet; ComponentLink2URL: http://www.analog.com/static/imported-files/data_sheets/ADG801_802.pdf; ComponentLink3Description: Package Specification; ComponentLink3URL: http://www.analog.com/static/imported-files/packages/PKG_PDF/SOT-23(RJ)/RJ_6.pdf
footprint ADI-RJ-6_N (SOT23, 6-Leads, Body 2.9x1.6mm, Pitch 0.95mm, IPC Medium Density)
footprint ADI-RJ-6_L (SOT23, 6-Leads, Body 2.9x1.6mm, Pitch 0.95mm, IPC High Density)
footprint ADI-RJ-6_M (SOT23, 6-Leads, Body 2.9x1.6mm, Pitch 0.95mm, IPC Low Density)
pins: 1 D "Drain Terminal. Can be an input or an output.", 2 S "Source Terminal. Can be an input or an output.", 3 GND (power) "Ground (0 V) Reference.", 4 IN (in) "Logic Control Input.", 5 NC "No Connect. Do not connect to this pin.", 6 VDD (power) "Most Positive Power Supply Potential."

## ADG801BRTZ-REEL
designator U?
<0.4 Ohm CMOS 1.8 to 5.5 V SPST Switch, -40 to 125 degC, 6-pin SOT23 (RJ-6), Reel; Manufacturer: Analog Devices; PartNumber: ADG801BRTZ-REEL; # Sw Functions: 1; Id, Is (ON): 10pA, 10pA; Max Pos Supply: 5.5V; Min Pos Supply: 1.8V; Power Dissipation: 5uW; DatasheetVersion: Rev. B; PackageVersion: 121608-A, 12/2008; PackageReference: RJ-6; PackageDescription: 6-Pin Small Outline Transistor Package, Body 2.9 x 1.6 mm, Pitch 0.95 mm; Supplier 1: Digi-Key; Supplier Part Number 1: ADG801BRTZ-REEL-ND; Supplier 2: Newark; Supplier Part Number 2: 59K1625; Supplier 3: Mouser; Supplier Part Number 3: 584-ADG801BRTZ-R; Configuration: SPST; Is OFF: 10pA, 10pA; Packing: Reel; Mounting Technology: Surface Mount; Code_JEDEC: MO-178-AB; ComponentLink1Description: Manufacturer URL; ComponentLink1URL: http://www.analog.com/en/index.html; ComponentLink2Description: Datasheet; ComponentLink2URL: http://www.analog.com/static/imported-files/data_sheets/ADG801_802.pdf; ComponentLink3Description: Package Specification; ComponentLink3URL: http://www.analog.com/static/imported-files/packages/PKG_PDF/SOT-23(RJ)/RJ_6.pdf
footprint ADI-RJ-6_N (SOT23, 6-Leads, Body 2.9x1.6mm, Pitch 0.95mm, IPC Medium Density)
footprint ADI-RJ-6_L (SOT23, 6-Leads, Body 2.9x1.6mm, Pitch 0.95mm, IPC High Density)
footprint ADI-RJ-6_M (SOT23, 6-Leads, Body 2.9x1.6mm, Pitch 0.95mm, IPC Low Density)
pins: 1 D "Drain Terminal. Can be an input or an output.", 2 S "Source Terminal. Can be an input or an output.", 3 GND (power) "Ground (0 V) Reference.", 4 IN (in) "Logic Control Input.", 5 NC "No Connect. Do not connect to this pin.", 6 VDD (power) "Most Positive Power Supply Potential."

## ADG801BRTZ-REEL7
designator U?
<0.4 Ohm CMOS 1.8 to 5.5 V SPST Switch, -40 to 125 degC, 6-pin SOT23 (RJ-6), Reel; Manufacturer: Analog Devices; PartNumber: ADG801BRTZ-REEL7; # Sw Functions: 1; Id, Is (ON): 10pA, 10pA; Max Pos Supply: 5.5V; Min Pos Supply: 1.8V; Power Dissipation: 5uW; DatasheetVersion: Rev. B; PackageVersion: 121608-A, 12/2008; PackageReference: RJ-6; PackageDescription: 6-Pin Small Outline Transistor Package, Body 2.9 x 1.6 mm, Pitch 0.95 mm; Supplier 1: Digi-Key; Supplier Part Number 1: ADG801BRTZ-REEL7TR-ND; Supplier 2: Digi-Key; Supplier Part Number 2: ADG801BRTZ-REEL7CT-ND; Supplier 3: Digi-Key; Supplier Part Number 3: ADG801BRTZ-REEL7DKR-ND; Supplier 4: Farnell; Supplier Part Number 4: 1838889; Supplier 5: Newark; Supplier Part Number 5: 59K1626; Supplier 6: Newark; Supplier Part Number 6: 28X4180; Supplier 7: Mouser; Supplier Part Number 7: 584-ADG801BRTZ-R7; Configuration: SPST; Is OFF: 10pA, 10pA; Packing: Reel; Mounting Technology: Surface Mount; Code_JEDEC: MO-178-AB; ComponentLink1Description: Manufacturer URL; ComponentLink1URL: http://www.analog.com/en/index.html; ComponentLink2Description: Datasheet; ComponentLink2URL: http://www.analog.com/static/imported-files/data_sheets/ADG801_802.pdf; ComponentLink3Description: Package Specification; ComponentLink3URL: http://www.analog.com/static/imported-files/packages/PKG_PDF/SOT-23(RJ)/RJ_6.pdf
footprint ADI-RJ-6_N (SOT23, 6-Leads, Body 2.9x1.6mm, Pitch 0.95mm, IPC Medium Density)
footprint ADI-RJ-6_L (SOT23, 6-Leads, Body 2.9x1.6mm, Pitch 0.95mm, IPC High Density)
footprint ADI-RJ-6_M (SOT23, 6-Leads, Body 2.9x1.6mm, Pitch 0.95mm, IPC Low Density)
pins: 1 D "Drain Terminal. Can be an input or an output.", 2 S "Source Terminal. Can be an input or an output.", 3 GND (power) "Ground (0 V) Reference.", 4 IN (in) "Logic Control Input.", 5 NC "No Connect. Do not connect to this pin.", 6 VDD (power) "Most Positive Power Supply Potential."

## ADG802BRM
designator U?
<0.4 Ohm CMOS 1.8 to 5.5 V SPST Switch, -40 to 125 degC, 8-pin SOP (RM-8), Tube; Manufacturer: Analog Devices; PartNumber: ADG802BRM; # Sw Functions: 1; Id, Is (ON): 10pA, 10pA; Max Pos Supply: 5.5V; Min Pos Supply: 1.8V; Power Dissipation: 5uW; DatasheetVersion: Rev. B; PackageVersion: Aug-05; PackageReference: RM-8; PackageDescription: 8-Pin Mini Small Outline Package, Body 3 x 3 mm, Pitch 0.65 mm; Supplier 1: Digi-Key; Supplier Part Number 1: ADG802BRM-ND; Supplier 2: Mouser; Supplier Part Number 2: 584-ADG802BRM; Configuration: SPST; Is OFF: 10pA, 10pA; Packing: Tube; Mounting Technology: Surface Mount; Code_JEDEC: MO-187-AA; ComponentLink1Description: Manufacturer URL; ComponentLink1URL: http://www.analog.com/en/index.html; ComponentLink2Description: Datasheet; ComponentLink2URL: http://www.analog.com/static/imported-files/data_sheets/ADG801_802.pdf; ComponentLink3Description: Package Specification; ComponentLink3URL: http://www.analog.com/static/imported-files/packages/PKG_PDF/MSOP%28RM%29/RM_8.pdf
footprint ADI-RM-8_N (SOP, 8-Leads, Body 3x3mm, Pitch 0.65mm, IPC Medium Density)
footprint ADI-RM-8_L (SOP, 8-Leads, Body 3x3mm, Pitch 0.65mm, IPC High Density)
footprint ADI-RM-8_M (SOP, 8-Leads, Body 3x3mm, Pitch 0.65mm, IPC Low Density)
pins: 1 D "Drain Terminal. Can be an input or an output.", 2 NC "No Connect. Do not connect to this pin.", 3 NC "No Connect. Do not connect to this pin.", 4 VDD (power) "Most Positive Power Supply Potential.", 5 NC "No Connect. Do not connect to this pin.", 6 IN (in) "Logic Control Input.", 7 GND (power) "Ground (0 V) Reference.", 8 S "Source Terminal. Can be an input or an output."

## ADG802BRM-REEL
designator U?
<0.4 Ohm CMOS 1.8 to 5.5 V SPST Switch, -40 to 125 degC, 8-pin SOP (RM-8), Reel; Manufacturer: Analog Devices; PartNumber: ADG802BRM-REEL; # Sw Functions: 1; Id, Is (ON): 10pA, 10pA; Max Pos Supply: 5.5V; Min Pos Supply: 1.8V; Power Dissipation: 5uW; DatasheetVersion: Rev. B; PackageVersion: Aug-05; PackageReference: RM-8; PackageDescription: 8-Pin Mini Small Outline Package, Body 3 x 3 mm, Pitch 0.65 mm; Supplier 1: Digi-Key; Supplier Part Number 1: ADG802BRM-REEL-ND; Supplier 2: Newark; Supplier Part Number 2: 02H0930; Supplier 3: Mouser; Supplier Part Number 3: 584-ADG802BRM-R; Configuration: SPST; Is OFF: 10pA, 10pA; Packing: Reel; Mounting Technology: Surface Mount; Code_JEDEC: MO-187-AA; ComponentLink1Description: Manufacturer URL; ComponentLink1URL: http://www.analog.com/en/index.html; ComponentLink2Description: Datasheet; ComponentLink2URL: http://www.analog.com/static/imported-files/data_sheets/ADG801_802.pdf; ComponentLink3Description: Package Specification; ComponentLink3URL: http://www.analog.com/static/imported-files/packages/PKG_PDF/MSOP%28RM%29/RM_8.pdf
footprint ADI-RM-8_N (SOP, 8-Leads, Body 3x3mm, Pitch 0.65mm, IPC Medium Density)
footprint ADI-RM-8_L (SOP, 8-Leads, Body 3x3mm, Pitch 0.65mm, IPC High Density)
footprint ADI-RM-8_M (SOP, 8-Leads, Body 3x3mm, Pitch 0.65mm, IPC Low Density)
pins: 1 D "Drain Terminal. Can be an input or an output.", 2 NC "No Connect. Do not connect to this pin.", 3 NC "No Connect. Do not connect to this pin.", 4 VDD (power) "Most Positive Power Supply Potential.", 5 NC "No Connect. Do not connect to this pin.", 6 IN (in) "Logic Control Input.", 7 GND (power) "Ground (0 V) Reference.", 8 S "Source Terminal. Can be an input or an output."

## ADG802BRM-REEL7
designator U?
<0.4 Ohm CMOS 1.8 to 5.5 V SPST Switch, -40 to 125 degC, 8-pin SOP (RM-8), Reel; Manufacturer: Analog Devices; PartNumber: ADG802BRM-REEL7; # Sw Functions: 1; Id, Is (ON): 10pA, 10pA; Max Pos Supply: 5.5V; Min Pos Supply: 1.8V; Power Dissipation: 5uW; DatasheetVersion: Rev. B; PackageVersion: Aug-05; PackageReference: RM-8; PackageDescription: 8-Pin Mini Small Outline Package, Body 3 x 3 mm, Pitch 0.65 mm; Supplier 1: Digi-Key; Supplier Part Number 1: ADG802BRM-REEL7-ND; Supplier 2: Mouser; Supplier Part Number 2: 584-ADG802BRM-R7; Configuration: SPST; Is OFF: 10pA, 10pA; Packing: Reel; Mounting Technology: Surface Mount; Code_JEDEC: MO-187-AA; ComponentLink1Description: Manufacturer URL; ComponentLink1URL: http://www.analog.com/en/index.html; ComponentLink2Description: Datasheet; ComponentLink2URL: http://www.analog.com/static/imported-files/data_sheets/ADG801_802.pdf; ComponentLink3Description: Package Specification; ComponentLink3URL: http://www.analog.com/static/imported-files/packages/PKG_PDF/MSOP%28RM%29/RM_8.pdf
footprint ADI-RM-8_N (SOP, 8-Leads, Body 3x3mm, Pitch 0.65mm, IPC Medium Density)
footprint ADI-RM-8_L (SOP, 8-Leads, Body 3x3mm, Pitch 0.65mm, IPC High Density)
footprint ADI-RM-8_M (SOP, 8-Leads, Body 3x3mm, Pitch 0.65mm, IPC Low Density)
pins: 1 D "Drain Terminal. Can be an input or an output.", 2 NC "No Connect. Do not connect to this pin.", 3 NC "No Connect. Do not connect to this pin.", 4 VDD (power) "Most Positive Power Supply Potential.", 5 NC "No Connect. Do not connect to this pin.", 6 IN (in) "Logic Control Input.", 7 GND (power) "Ground (0 V) Reference.", 8 S "Source Terminal. Can be an input or an output."

## ADG802BRMZ
designator U?
<0.4 Ohm CMOS 1.8 to 5.5 V SPST Switch, -40 to 125 degC, 8-pin SOP (RM-8), Tube; Manufacturer: Analog Devices; PartNumber: ADG802BRMZ; # Sw Functions: 1; Id, Is (ON): 10pA, 10pA; Max Pos Supply: 5.5V; Min Pos Supply: 1.8V; Power Dissipation: 5uW; DatasheetVersion: Rev. B; PackageVersion: Aug-05; PackageReference: RM-8; PackageDescription: 8-Pin Mini Small Outline Package, Body 3 x 3 mm, Pitch 0.65 mm; Supplier 1: Digi-Key; Supplier Part Number 1: ADG802BRMZ-ND; Supplier 2: Newark; Supplier Part Number 2: 59K1629; Supplier 3: Mouser; Supplier Part Number 3: 584-ADG802BRMZ; Configuration: SPST; Is OFF: 10pA, 10pA; Packing: Tube; Mounting Technology: Surface Mount; Code_JEDEC: MO-187-AA; ComponentLink1Description: Manufacturer URL; ComponentLink1URL: http://www.analog.com/en/index.html; ComponentLink2Description: Datasheet; ComponentLink2URL: http://www.analog.com/static/imported-files/data_sheets/ADG801_802.pdf; ComponentLink3Description: Package Specification; ComponentLink3URL: http://www.analog.com/static/imported-files/packages/PKG_PDF/MSOP%28RM%29/RM_8.pdf
footprint ADI-RM-8_N (SOP, 8-Leads, Body 3x3mm, Pitch 0.65mm, IPC Medium Density)
footprint ADI-RM-8_L (SOP, 8-Leads, Body 3x3mm, Pitch 0.65mm, IPC High Density)
footprint ADI-RM-8_M (SOP, 8-Leads, Body 3x3mm, Pitch 0.65mm, IPC Low Density)
pins: 1 D "Drain Terminal. Can be an input or an output.", 2 NC "No Connect. Do not connect to this pin.", 3 NC "No Connect. Do not connect to this pin.", 4 VDD (power) "Most Positive Power Supply Potential.", 5 NC "No Connect. Do not connect to this pin.", 6 IN (in) "Logic Control Input.", 7 GND (power) "Ground (0 V) Reference.", 8 S "Source Terminal. Can be an input or an output."

## ADG802BRMZ-REEL
designator U?
<0.4 Ohm CMOS 1.8 to 5.5 V SPST Switch, -40 to 125 degC, 8-pin SOP (RM-8), Reel; Manufacturer: Analog Devices; PartNumber: ADG802BRMZ-REEL; # Sw Functions: 1; Id, Is (ON): 10pA, 10pA; Max Pos Supply: 5.5V; Min Pos Supply: 1.8V; Power Dissipation: 5uW; DatasheetVersion: Rev. B; PackageVersion: Aug-05; PackageReference: RM-8; PackageDescription: 8-Pin Mini Small Outline Package, Body 3 x 3 mm, Pitch 0.65 mm; Supplier 1: Digi-Key; Supplier Part Number 1: ADG802BRMZ-REEL-ND; Supplier 2: Mouser; Supplier Part Number 2: 584-ADG802BRMZ-R; Configuration: SPST; Is OFF: 10pA, 10pA; Packing: Reel; Mounting Technology: Surface Mount; Code_JEDEC: MO-187-AA; ComponentLink1Description: Manufacturer URL; ComponentLink1URL: http://www.analog.com/en/index.html; ComponentLink2Description: Datasheet; ComponentLink2URL: http://www.analog.com/static/imported-files/data_sheets/ADG801_802.pdf; ComponentLink3Description: Package Specification; ComponentLink3URL: http://www.analog.com/static/imported-files/packages/PKG_PDF/MSOP%28RM%29/RM_8.pdf
footprint ADI-RM-8_N (SOP, 8-Leads, Body 3x3mm, Pitch 0.65mm, IPC Medium Density)
footprint ADI-RM-8_L (SOP, 8-Leads, Body 3x3mm, Pitch 0.65mm, IPC High Density)
footprint ADI-RM-8_M (SOP, 8-Leads, Body 3x3mm, Pitch 0.65mm, IPC Low Density)
pins: 1 D "Drain Terminal. Can be an input or an output.", 2 NC "No Connect. Do not connect to this pin.", 3 NC "No Connect. Do not connect to this pin.", 4 VDD (power) "Most Positive Power Supply Potential.", 5 NC "No Connect. Do not connect to this pin.", 6 IN (in) "Logic Control Input.", 7 GND (power) "Ground (0 V) Reference.", 8 S "Source Terminal. Can be an input or an output."

## ADG802BRMZ-REEL7
designator U?
<0.4 Ohm CMOS 1.8 to 5.5 V SPST Switch, -40 to 125 degC, 8-pin SOP (RM-8), Reel; Manufacturer: Analog Devices; PartNumber: ADG802BRMZ-REEL7; # Sw Functions: 1; Id, Is (ON): 10pA, 10pA; Max Pos Supply: 5.5V; Min Pos Supply: 1.8V; Power Dissipation: 5uW; DatasheetVersion: Rev. B; PackageVersion: Aug-05; PackageReference: RM-8; PackageDescription: 8-Pin Mini Small Outline Package, Body 3 x 3 mm, Pitch 0.65 mm; Supplier 1: Digi-Key; Supplier Part Number 1: ADG802BRMZ-REEL7-ND; Supplier 2: Mouser; Supplier Part Number 2: 584-ADG802BRMZ-R7; Configuration: SPST; Is OFF: 10pA, 10pA; Packing: Reel; Mounting Technology: Surface Mount; Code_JEDEC: MO-187-AA; ComponentLink1Description: Manufacturer URL; ComponentLink1URL: http://www.analog.com/en/index.html; ComponentLink2Description: Datasheet; ComponentLink2URL: http://www.analog.com/static/imported-files/data_sheets/ADG801_802.pdf; ComponentLink3Description: Package Specification; ComponentLink3URL: http://www.analog.com/static/imported-files/packages/PKG_PDF/MSOP%28RM%29/RM_8.pdf
footprint ADI-RM-8_N (SOP, 8-Leads, Body 3x3mm, Pitch 0.65mm, IPC Medium Density)
footprint ADI-RM-8_L (SOP, 8-Leads, Body 3x3mm, Pitch 0.65mm, IPC High Density)
footprint ADI-RM-8_M (SOP, 8-Leads, Body 3x3mm, Pitch 0.65mm, IPC Low Density)
pins: 1 D "Drain Terminal. Can be an input or an output.", 2 NC "No Connect. Do not connect to this pin.", 3 NC "No Connect. Do not connect to this pin.", 4 VDD (power) "Most Positive Power Supply Potential.", 5 NC "No Connect. Do not connect to this pin.", 6 IN (in) "Logic Control Input.", 7 GND (power) "Ground (0 V) Reference.", 8 S "Source Terminal. Can be an input or an output."